# EAGLE library part ATMEGA8P (library fritzing-0001a)
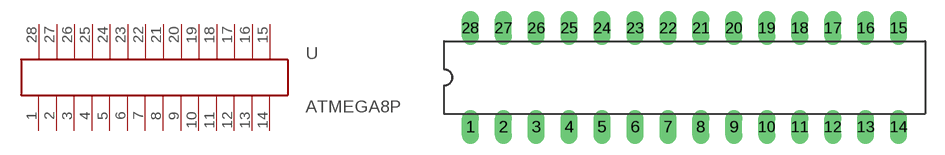
[diagram p0: symbol with the pads of DIL28-3; footprint DIL28-3]

Designator prefix U

## ATMEGA8P  [DIL28-3]
1  RESET
2  PD0/RXD
3  PD1/TXD
4  PD2
5  PD3
6  PD4
7  VCC
8  GND
9  PB6/XTAL1
10  PB7/XTAL2
11  PD5
12  PD6
13  PD7
14  PB0
15  PB1
16  PB2
17  PB3
18  PB4
19  PB5
20  AVCC
21  AREF
22  GND
23  PC0/ADC0
24  PC1/ADC1
25  PC2/ADC2
26  PC3/ADC3
27  PC4/ADC4
28  PC5/ADC5

## Footprint DIL28-3 (pad centres in mm)
Dual In Line 0.3 inch
drill 0.813 long: 1 -16.51,-3.81; 2 -13.97,-3.81; 3 -11.43,-3.81; 4 -8.89,-3.81; 5 -6.35,-3.81; 6 -3.81,-3.81; 7 -1.27,-3.81; 8 1.27,-3.81; 9 3.81,-3.81; 10 6.35,-3.81; 11 8.89,-3.81; 12 11.43,-3.81; 13 13.97,-3.81; 14 16.51,-3.81; 15 16.51,3.81; 16 13.97,3.81; 17 11.43,3.81; 18 8.89,3.81; 19 6.35,3.81; 20 3.81,3.81; 21 1.27,3.81; 22 -1.27,3.81; 23 -3.81,3.81; 24 -6.35,3.81; 25 -8.89,3.81; 26 -11.43,3.81; 27 -13.97,3.81; 28 -16.51,3.81